# Altium schematic symbol library B2PS-VH.SchLib: 1 symbol
Pins are listed as number, name and electrical type; pins without a type are passive.

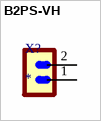
[diagram p0: symbol B2PS-VH]

## B2PS-VH
designator X?
Connector Header Through Hole, Right Angle 2 position 0.156 (3.96mm); MF: JST Sales; MP: B2PS-VH; SnapEDA_Link: https://www.snapeda.com/parts/B2PS-VH/JST/view-part/?ref=snap; Package: None; Value: *; Check_prices: https://www.snapeda.com/parts/B2PS-VH/JST/view-part/?ref=eda
footprint B2PS-VH
pins: 1, 2